# Altium footprint library 533980671.PcbLib: 1 footprints
Each footprint in its own frame and in the unit in brackets; x right, y up, seen from the top. Pads: shape width x height; smd on the part's side, far side on the other; paste and mask are expansions set on the pad; w line width, h text height; cw(c..) or ccw(c..) is an arc to the next point about the centre after c.
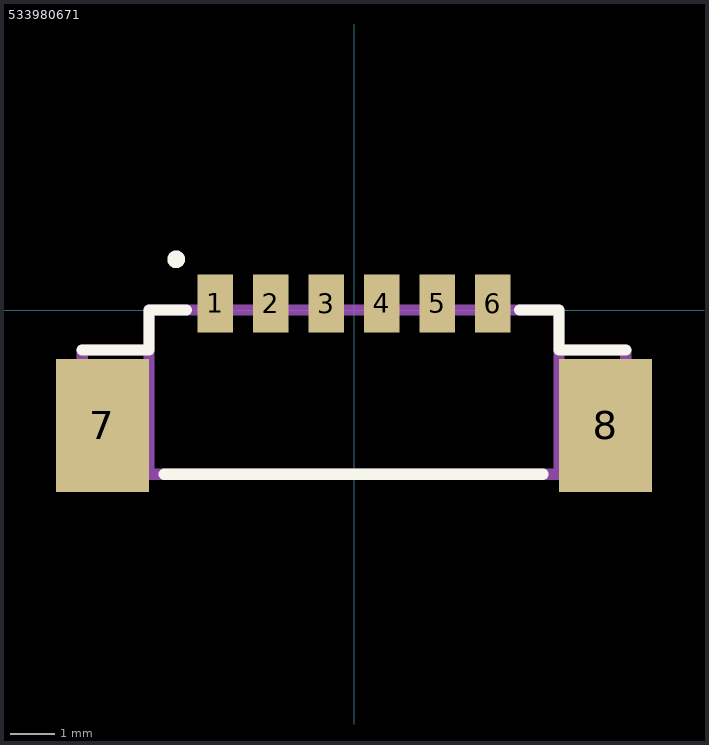
[diagram p0: the footprint, top view; thin cyan lines are the x and y axes]

## 533980671 [mm]
pads (8):
  rect 0.8x1.3 smd: 1(-3.125,0.15) 2(-1.875,0.15) 3(-0.625,0.15) 4(0.625,0.15) 5(1.875,0.15) 6(3.125,0.15)
  rect 2.1x3 smd: 7(-5.675,-2.6) 8(5.675,-2.6)
L26-Silk Screen Top (Multiple PADS layers...):
  circle w0.254: c-4.011,1.145 r0.072
  lines w0.254: -6.125,-0.9 -4.625,-0.9 -4.625,0 -3.784,0 ; -4.28,-3.7 4.259,-3.7 ; 3.735,0 4.625,0 4.625,-0.9 6.125,-0.9
L15 (Multiple PADS layers...):
  lines w0.254: -4.625,-0.9 -6.125,-0.9 -6.125,-3.7 -4.625,-3.7 ; 4.625,-0.9 6.125,-0.9 6.125,-3.7 4.625,-3.7 ; -4.625,-3.7 4.625,-3.7 ; -4.625,-3.7 -4.625,0 4.625,0 4.625,-3.7